# Altium footprint library PowerSSO-12.PcbLib: 1 footprints
Each footprint in its own frame and in the unit in brackets; x right, y up, seen from the top. Pads: shape width x height; smd on the part's side, far side on the other; paste and mask are expansions set on the pad; w line width, h text height; cw(c..) or ccw(c..) is an arc to the next point about the centre after c.
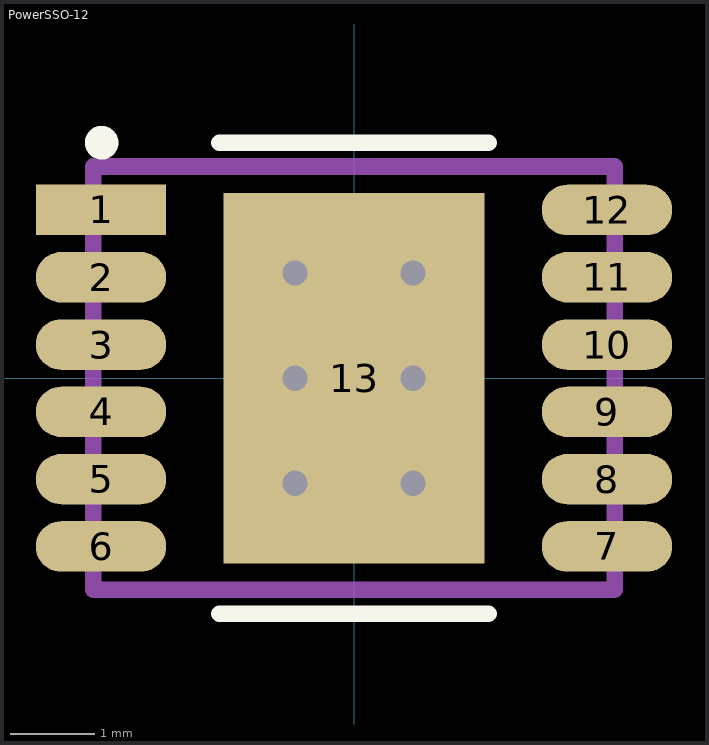
[diagram p0: the footprint, top view; thin cyan lines are the x and y axes]

## PowerSSO-12 [mm]
pads (13):
  rect 1.55x0.6 smd mask+0.05: 1(-3.007,2)
  oval 1.55x0.6 smd mask+0.05: 2(-3.007,1.2) 3(-3.007,0.4) 4(-3.007,-0.4) 5(-3.007,-1.2) 6(-3.007,-2) 7(3.007,-2) 8(3.007,-1.2) 9(3.007,-0.4) 10(3.007,0.4) 11(3.007,1.2) 12(3.007,2)
  rect 3.1x4.4 smd paste+0 mask+0.05: 13(0,0)
via -0.7,1.25 diameter 0.6 hole 0.3
via -0.7,0 diameter 0.6 hole 0.3
via 0.7,-1.25 diameter 0.6 hole 0.3
via -0.7,-1.25 diameter 0.6 hole 0.3
via 0.7,0 diameter 0.6 hole 0.3
via 0.7,1.25 diameter 0.6 hole 0.3
Top Overlay:
  circle w0.2: c-3,2.8 r0.1
  lines w0.2: -1.6,-2.8 1.6,-2.8 ; -1.6,2.8 1.6,2.8
Top Designator:
  text ".Designator" at -7.618,-0.458 h1.52
3D Body:
  lines w0.2: -3.1,-2.515 -3.1,2.516 3.098,2.516 3.099,2.515 3.099,-2.515 -3.1,-2.515
Center Cross:
  lines w0.2: -0.5,0 0,0 0.5,0 ; 0,-0.5 0,0.5
3D body "PowerSSO12_STM.step": height 1.77, standoff 0.01, extent -3.099,-2.515 3.099,2.515